# EAGLE library part 70L7 (library radiotubes)
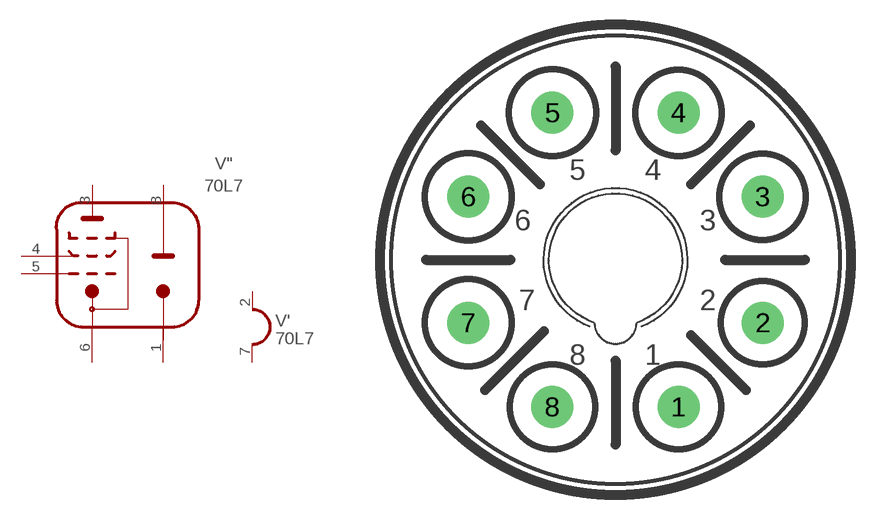
[diagram p121: symbol with the pads of OKTAL; footprint OKTAL]

Designator prefix V; gates "=70L7 '=HEATER_1

## 70L7  [OKTAL]
1  ":KD  pas
2  ':H1  pas
3  ":AP  pas
4  ":G2P  pas
5  ":G1P  pas
6  ":KP,G3,S  pas
7  ':H2  pas
8  ":AD  pas

## Footprint OKTAL (pad centres in mm)
drill 1.27 pad 2.54: 1 3.81,-8.89; 2 8.89,-3.81; 3 8.89,3.81; 4 3.81,8.89; 5 -3.81,8.89; 6 -8.89,3.81; 7 -8.89,-3.81; 8 -3.81,-8.89